# EAGLE library part ENC28J60PLATINE (library ROSnode)
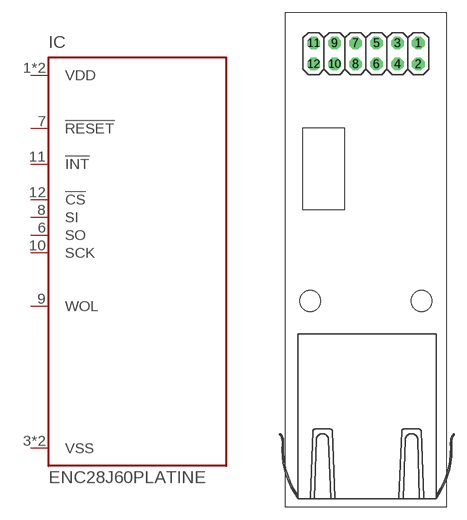
[diagram p7: symbol with the pads of ENCPLATINE; footprint ENCPLATINE]

Designator prefix IC

## ENC28J60PLATINEPCB (MF: -; MFN: ENC28J60 Netzwerkmodul)  [ENCPLATINE]
1  VDD  in
2  VDD  in
3  VSS  in
4  VSS  in
6  SO  out
7  !RESET  in
8  SI  in
9  WOL  out
10  SCK  in
11  !INT  out
12  !CS  in

## Footprint ENCPLATINE (pad centres in mm)
PIN HEADER
drill 1.016 octagon: 1 6.35,1.27; 2 6.35,-1.27; 3 3.81,1.27; 4 3.81,-1.27; 5 1.27,1.27; 6 1.27,-1.27; 7 -1.27,1.27; 8 -1.27,-1.27; 9 -3.81,1.27; 10 -3.81,-1.27; 11 -6.35,1.27; 12 -6.35,-1.27
hole 2.5 at -6.75,-30
hole 2.5 at 6.75,-30